# Altium schematic symbol library SAMTEC-SMM-115-02-X-D.SchLib: 1 symbol
Pins are listed as number, name and electrical type; pins without a type are passive.

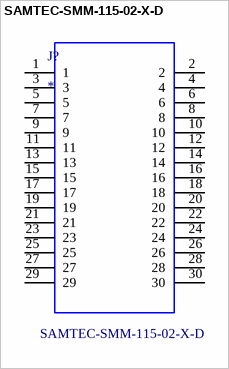
[diagram p0: symbol SAMTEC-SMM-115-02-X-D]

## SAMTEC-SMM-115-02-X-D
designator J?
MP: SAMTEC-SMM-115-02-X-D; Package: None; Price: None; Value: *; Availability: Unavailable
footprint SAMTEC-SMM-115-02-X-D
pins: 1, 2, 3, 4, 5, 6, 7, 8, 9, 10, 11, 12, 13, 14, 15, 16, 17, 18, 19, 20, 21, 22, 23, 24, 25, 26, 27, 28, 29, 30